# Altium integrated library SAWACO_DEMO_V2.IntLib: 41 symbols
Pins are listed as number, name and electrical type; pins without a type are passive.

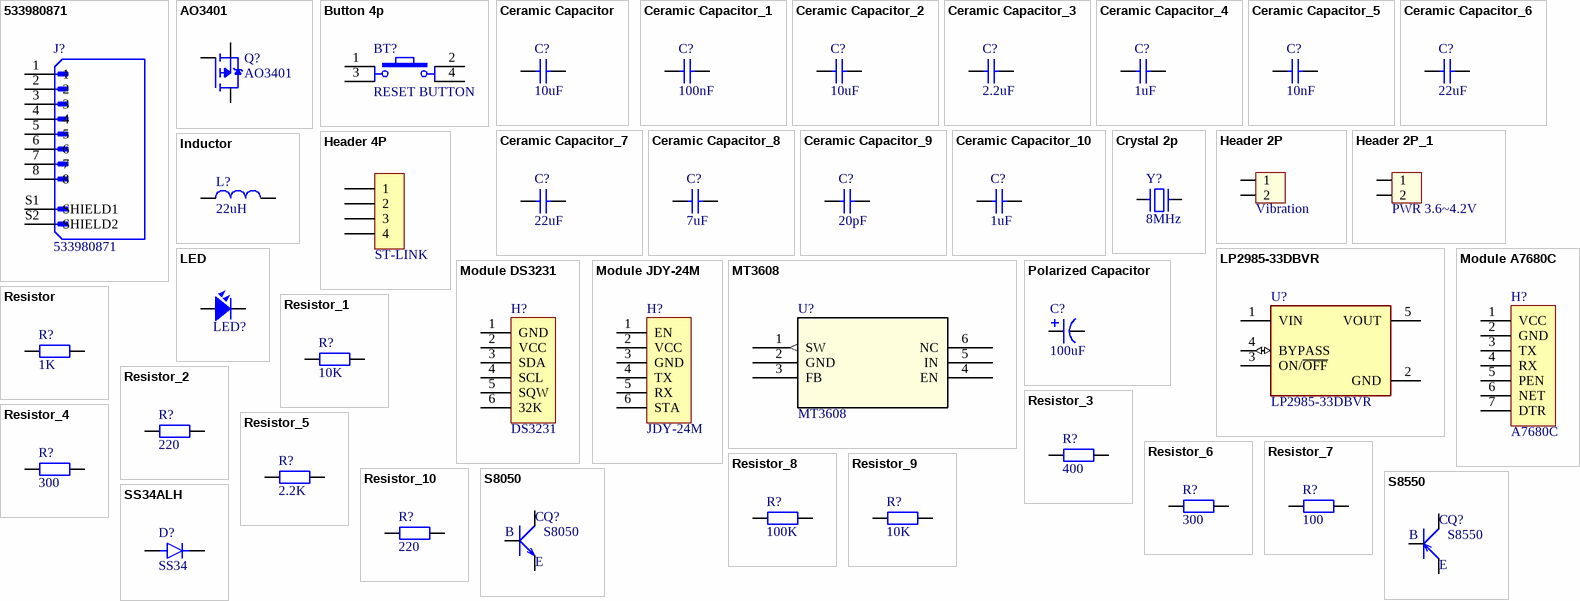
[diagram p0: symbols 533980871 to SS34ALH]

## 533980871
designator J?
MX 1.25mm 8 pin;Conn; Rect; Header; 1.25 mm Pitch; PCB; 8 Cir; Ver; SMT; PicoBlade; LF | Molex Incorporated 53398-0871; Price: None; MP: 533980871; Availability: Unavailable; Value: *; Package: None
footprint MOLEX_533980871
pins: 1, 2, 3, 4, 5, 6, 7, 8, S1 SHIELD1, S2 SHIELD2

## AO3401
designator Q?
Mosfet P-Channel 30 V 4A (Ta) 1.4W (Ta) Surface Mount SOT-23-3; MF: Alpha &; SnapEDA_Link: https://www.snapeda.com/parts/AO3401/Alpha+%2526+Omega+Semiconductor+Inc./view-part/?ref=snap; Package: TO-236-3 Alpha &amp; Omega Semiconductor Inc.; Value: *; MP: AO3401; Check_prices: https://www.snapeda.com/parts/AO3401/Alpha+%2526+Omega+Semiconductor+Inc./view-part/?ref=eda
footprint SOT23
pins: 1 G, 2 S, 3 D

## Button 4p
designator BT?, comment RESET BUTTON
Ten: Nút Nhấn 4 Chân 6.2x6.2x3.1MM SMD; Ma_Hang: MH002424
footprint SMD button 4 pins 6x6 (SW SMD button 4pin, 250 x250 mil)
pins: 1, 2, 3, 4

## Ceramic Capacitor
designator C?, comment 10uF
Chung_Loai: Dán; Don_Vi: Con; So_Chan: 2; Ten_Linh_Kien: Tụ 0805 104-100nF 10% 50V; Ma_Hang: MH004551; Kieu_Chan: *
footprint 0603_Cap (0603 SMD Ceramic Capacitor)
footprint 0805_Cap (0805 SMD Ceramic Capacitor)
footprint 1206_CAP (3216 Tantalum Capacitor)
pins: 1, 2

## Ceramic Capacitor_1
designator C?, comment 100nF
Chung_Loai: Dán; Don_Vi: Con; So_Chan: 2; Ten_Linh_Kien: Tụ 0805 104-100nF 10% 50V; Ma_Hang: MH004551; Kieu_Chan: *
footprint 0603_Cap (0603 SMD Ceramic Capacitor)
footprint 0805_Cap (0805 SMD Ceramic Capacitor)
footprint 1206_CAP (3216 Tantalum Capacitor)
pins: 1, 2

## Ceramic Capacitor_2
designator C?, comment 10uF
Chung_Loai: Dán; Don_Vi: Con; So_Chan: 2; Ten_Linh_Kien: Tụ 0805 104-100nF 10% 50V; Ma_Hang: MH004551; Kieu_Chan: *
footprint 0603_Cap (0603 SMD Ceramic Capacitor)
footprint 0805_Cap (0805 SMD Ceramic Capacitor)
footprint 1206_CAP (3216 Tantalum Capacitor)
pins: 1, 2

## Ceramic Capacitor_3
designator C?, comment 2.2uF
Chung_Loai: Dán; Don_Vi: Con; So_Chan: 2; Ten_Linh_Kien: Tụ 0805 104-100nF 10% 50V; Ma_Hang: MH004551; Kieu_Chan: *
footprint 0603_Cap (0603 SMD Ceramic Capacitor)
footprint 0805_Cap (0805 SMD Ceramic Capacitor)
footprint 1206_CAP (3216 Tantalum Capacitor)
pins: 1, 2

## Ceramic Capacitor_4
designator C?, comment 1uF
Chung_Loai: Dán; Don_Vi: Con; So_Chan: 2; Ten_Linh_Kien: Tụ 0805 104-100nF 10% 50V; Ma_Hang: MH004551; Kieu_Chan: *
footprint 0603_Cap (0603 SMD Ceramic Capacitor)
footprint 0805_Cap (0805 SMD Ceramic Capacitor)
footprint 1206_CAP (3216 Tantalum Capacitor)
pins: 1, 2

## Ceramic Capacitor_5
designator C?, comment 10nF
Chung_Loai: Dán; Don_Vi: Con; So_Chan: 2; Ten_Linh_Kien: Tụ 0805 104-100nF 10% 50V; Ma_Hang: MH004551; Kieu_Chan: *
footprint 0603_Cap (0603 SMD Ceramic Capacitor)
footprint 0805_Cap (0805 SMD Ceramic Capacitor)
footprint 1206_CAP (3216 Tantalum Capacitor)
pins: 1, 2

## Ceramic Capacitor_6
designator C?, comment 22uF
Chung_Loai: Dán; Don_Vi: Con; So_Chan: 2; Ten_Linh_Kien: Tụ 0805 104-100nF 10% 50V; Ma_Hang: MH004551; Kieu_Chan: *
footprint 0603_Cap (0603 SMD Ceramic Capacitor)
footprint 0805_Cap (0805 SMD Ceramic Capacitor)
footprint 1206_CAP (3216 Tantalum Capacitor)
pins: 1, 2

## Ceramic Capacitor_7
designator C?, comment 22uF
Chung_Loai: Dán; Don_Vi: Con; So_Chan: 2; Ten_Linh_Kien: Tụ 0805 104-100nF 10% 50V; Ma_Hang: MH004551; Kieu_Chan: *
footprint 0603_Cap (0603 SMD Ceramic Capacitor)
footprint 0805_Cap (0805 SMD Ceramic Capacitor)
footprint 1206_CAP (3216 Tantalum Capacitor)
pins: 1, 2

## Ceramic Capacitor_8
designator C?, comment 7uF
Chung_Loai: Dán; Don_Vi: Con; So_Chan: 2; Ten_Linh_Kien: Tụ 0805 104-100nF 10% 50V; Ma_Hang: MH004551; Kieu_Chan: *
footprint 0603_Cap (0603 SMD Ceramic Capacitor)
footprint 0805_Cap (0805 SMD Ceramic Capacitor)
footprint 1206_CAP (3216 Tantalum Capacitor)
pins: 1, 2

## Ceramic Capacitor_9
designator C?, comment 20pF
Chung_Loai: Dán; Don_Vi: Con; So_Chan: 2; Ten_Linh_Kien: Tụ 0805 104-100nF 10% 50V; Ma_Hang: MH004551; Kieu_Chan: *
footprint 0603_Cap (0603 SMD Ceramic Capacitor)
footprint 0805_Cap (0805 SMD Ceramic Capacitor)
footprint 1206_CAP (3216 Tantalum Capacitor)
pins: 1, 2

## Ceramic Capacitor_10
designator C?, comment 1uF
Chung_Loai: Dán; Don_Vi: Con; So_Chan: 2; Ten_Linh_Kien: Tụ 0805 104-100nF 10% 50V; Ma_Hang: MH004551; Kieu_Chan: *
footprint 0603_Cap (0603 SMD Ceramic Capacitor)
footprint 0805_Cap (0805 SMD Ceramic Capacitor)
footprint 1206_CAP (3216 Tantalum Capacitor)
pins: 1, 2

## Crystal 2p
designator Y?, comment 8MHz
Crystal For all Crystal 2pin.; Value: 4Mhz
footprint Crystal SMD 2p
pins: 1, 2

## Header 2P
designator H?, comment Vibration
THT; Ten_Linh_Kien: Header 2P XH2.54-2P Đực Cong; Don_Vi: Con; Ma_Hang: MH002852; Chung_Loai: Cắm
footprint XH2.54M-2
footprint CON 2 EDG5.08-2P
footprint JP 1x2
pins: 1, 2

## Header 2P_1
designator H?, comment PWR 3.6~4.2V
THT; Ten_Linh_Kien: Header 2P XH2.54-2P Đực Cong; Don_Vi: Con; Ma_Hang: MH002852; Chung_Loai: Cắm
footprint XH2.54M-2
footprint CON 2 EDG5.08-2P
footprint JP 1x2
footprint KF301-2P
pins: 1, 2

## Header 4P
designator H?, comment ST-LINK
THT; Ten_Linh_Kien: Header 4P XH2.54-4P Đực Cong; Don_Vi: Con; Ma_Hang: MH001310; Chung_Loai: Cắm
footprint XH2.54M-4
footprint CON 4 EDG5.08-4P
footprint JP 1X4
pins: 1, 2, 3, 4

## Inductor
designator L?, comment 22uH
Inductors from EPCOS include SMT Inductors, SMT Power Inductors, Transponder Coils, ISDN Transformers, xDSL Transformers, DC/DC Converters, RF Transformers and SMT Current Sense Transformers.; MP: B82477G4472M000; Price: None; SnapEDA_Link: https://www.snapeda.com/parts/B82477G4472M000/EPCOS/view-part/?ref=snap; Package: NON STANDARD-2 EPCOS; Value: *; Check_prices: https://www.snapeda.com/parts/B82477G4472M000/EPCOS/view-part/?ref=eda; Availability: In Stock; MF: EPCOS; Purchase-URL: https://pricing.snapeda.com/search/part/B82477G4472M000/?ref=eda
footprint 0603_Inductor (SMD)
footprint Inductor 5A (THT)
pins: 1, 2

## LED
designator LED?  (value not drawn)
LED single color 2 leads
footprint 0603_LED (LED single color 2 leads)
footprint 0805_LED
pins: A Anode, C Cathode

## LP2985-33DBVR
designator U?
150-mA, 16-V, low-dropout voltage regulator with enable 5-SOT-23 -40 to 125; Package: None; Value: *; Price: None; MP: LP2985-33DBVR; Availability: Unavailable
footprint SOT95P280X145-5N
pins: 1 VIN, 2 GND (power), 3 ON/~{OFF}, 4 BYPASS (io), 5 VOUT

## Module A7680C
designator H?, comment A7680C
SIM Module A7680C; A7672S 4G
footprint Module A7680C (Footprint for A7680C)
pins: 1 VCC, 2 GND, 3 TX, 4 RX, 5 PEN, 6 NET, 7 DTR

## Module DS3231
designator H?, comment DS3231
Module RTC (Real Time Clock) DS3231 6p
footprint Module DS3231
pins: 1 GND, 2 VCC, 3 SDA, 4 SCL, 5 SQW, 6 32K

## Module JDY-24M
designator H?, comment JDY-24M
Module BLE JDY-24M Bluetooth module 6p
footprint Module JDY-24M
pins: 1 EN, 2 VCC, 3 GND, 4 TX, 5 RX, 6 STA

## MT3608
designator U?
No Description Available; Mfr_Name: Aerosemi; RefDes: RefDes; Type: Type
footprint TSOT23-6SOT23-6_AER
pins: 1 SW (out), 2 GND (power), 3 FB, 4 EN, 5 IN (power), 6 NC

## Polarized Capacitor
designator C?, comment 100uF
Polarized Capacitor
footprint 1206_CAP (3216 Tantalum Capacitor)
footprint 8x12 radial capacitor
pins: 1, 2

## Resistor
designator R?, comment 1K
Chung_Loai: Dán; Don_Vi: Con; So_Chan: 2; Ten_Linh_Kien: Trở 0805 1% 1k; Ma_Hang: MH005468; Kieu_Chan: *
footprint 0805_Res (0805 SMD Resistor)
footprint 0603_Res (0603 SMD Resistor)
pins: 1, 2

## Resistor_1
designator R?, comment 10K
Chung_Loai: Dán; Don_Vi: Con; So_Chan: 2; Ten_Linh_Kien: Trở 0805 1% 1k; Ma_Hang: MH005468; Kieu_Chan: *
footprint 0805_Res (0805 SMD Resistor)
footprint 0603_Res (0603 SMD Resistor)
pins: 1, 2

## Resistor_2
designator R?, comment 220
Chung_Loai: Dán; Don_Vi: Con; So_Chan: 2; Ten_Linh_Kien: Trở 0805 1% 1k; Ma_Hang: MH005468; Kieu_Chan: *
footprint 0805_Res (0805 SMD Resistor)
footprint 0603_Res (0603 SMD Resistor)
pins: 1, 2

## Resistor_3
designator R?, comment 400
Chung_Loai: Dán; Don_Vi: Con; So_Chan: 2; Ten_Linh_Kien: Trở 0805 1% 1k; Ma_Hang: MH005468; Kieu_Chan: *
footprint 0805_Res (0805 SMD Resistor)
footprint 0603_Res (0603 SMD Resistor)
pins: 1, 2

## Resistor_4
designator R?, comment 300
Chung_Loai: Dán; Don_Vi: Con; So_Chan: 2; Ten_Linh_Kien: Trở 0805 1% 1k; Ma_Hang: MH005468; Kieu_Chan: *
footprint 0805_Res (0805 SMD Resistor)
footprint 0603_Res (0603 SMD Resistor)
pins: 1, 2

## Resistor_5
designator R?, comment 2.2K
Chung_Loai: Dán; Don_Vi: Con; So_Chan: 2; Ten_Linh_Kien: Trở 0805 1% 1k; Ma_Hang: MH005468; Kieu_Chan: *
footprint 0805_Res (0805 SMD Resistor)
footprint 0603_Res (0603 SMD Resistor)
pins: 1, 2

## Resistor_6
designator R?, comment 300
Chung_Loai: Dán; Don_Vi: Con; So_Chan: 2; Ten_Linh_Kien: Trở 0805 1% 1k; Ma_Hang: MH005468; Kieu_Chan: *
footprint 0805_Res (0805 SMD Resistor)
footprint 0603_Res (0603 SMD Resistor)
pins: 1, 2

## Resistor_7
designator R?, comment 100
Chung_Loai: Dán; Don_Vi: Con; So_Chan: 2; Ten_Linh_Kien: Trở 0805 1% 1k; Ma_Hang: MH005468; Kieu_Chan: *
footprint 0805_Res (0805 SMD Resistor)
footprint 0603_Res (0603 SMD Resistor)
pins: 1, 2

## Resistor_8
designator R?, comment 100K
Chung_Loai: Dán; Don_Vi: Con; So_Chan: 2; Ten_Linh_Kien: Trở 0805 1% 1k; Ma_Hang: MH005468; Kieu_Chan: *
footprint 0805_Res (0805 SMD Resistor)
footprint 0603_Res (0603 SMD Resistor)
pins: 1, 2

## Resistor_9
designator R?, comment 10K
Chung_Loai: Dán; Don_Vi: Con; So_Chan: 2; Ten_Linh_Kien: Trở 0805 1% 1k; Ma_Hang: MH005468; Kieu_Chan: *
footprint 0805_Res (0805 SMD Resistor)
footprint 0603_Res (0603 SMD Resistor)
pins: 1, 2

## Resistor_10
designator R?, comment 220
Chung_Loai: Dán; Don_Vi: Con; So_Chan: 2; Ten_Linh_Kien: Trở 0805 1% 1k; Ma_Hang: MH005468; Kieu_Chan: *
footprint 0805_Res (0805 SMD Resistor)
footprint 0603_Res (0603 SMD Resistor)
pins: 1, 2

## S8050
designator Q?
Bipolar (BJT) Transistor NPN SOT-23; MF: UMW; Purchase-URL: https://banlinhkien.com/s8050-sot23-trans-npn-0.5a-40v-j3y-10c-p15943539.html; Check_prices: https://banlinhkien.com/s8050-sot23-trans-npn-0.5a-40v-j3y-10c-p15943539.html; Link: https://banlinhkien.com/s8050-sot23-trans-npn-0.5a-40v-j3y-10c-p15943539.html; Price: None; Availability: In Stock; Package: None; MP: S8050; Value: *
footprint SOT23
pins: 1 B, 2 E, 3 C

## S8550
designator Q?
Bipolar (BJT) Transistor PNP SOT-23; MF: UMW; MP: S8050; Purchase-URL: https://banlinhkien.com/s8050-sot23-trans-npn-0.5a-40v-j3y-10c-p15943539.html; Check_prices: https://banlinhkien.com/s8050-sot23-trans-npn-0.5a-40v-j3y-10c-p15943539.html; SnapEDA_Link: https://www.snapeda.com/parts/S8050/Umwelt+Sensor+Teknik/view-part/?ref=snap; Price: None; Availability: In Stock; Package: None; Value: *
footprint SOT-23
pins: 1 B, 2 E, 3 C

## SS34ALH
designator D?, comment SS34
3A, 40V, Schottky Rectifier; MP: SS34ALH; MF: Taiwan Semiconductor; Package: DO-221AC Taiwan Semiconductor; Value: *; SnapEDA_Link: https://www.snapeda.com/parts/SS34ALH/Taiwan+Semiconductor/view-part/?ref=snap; Availability: Not in stock; Price: None; Check_prices: https://www.snapeda.com/parts/SS34ALH/Taiwan+Semiconductor/view-part/?ref=eda
footprint SODFL5226X100N
pins: 1 K, 2 A

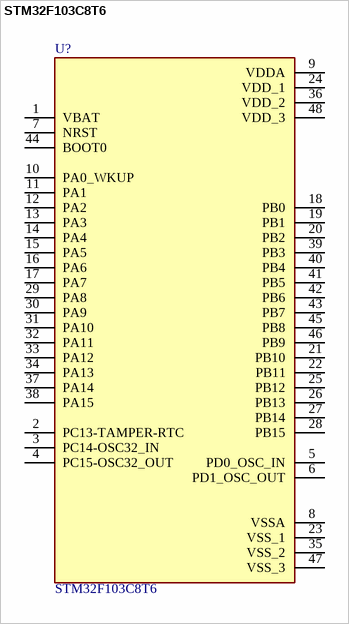
[diagram p1: symbol STM32F103C8T6]

## STM32F103C8T6
designator U?
ARMÂ® CortexÂ®-M3 STM32F1 Microcontroller IC 32-Bit 72MHz 64KB (64K x 8) FLASH 48-LQFP (7x7); MF: STMicroelectronics; Price: None; Availability: In Stock; MP: STM32F103C8T6; Package: LQFP-48 STMicroelectronics; Link: https://icdayroi.com/stm32f103c8t6; Check_prices: https://icdayroi.com/stm32f103c8t6; Value: *; Purchase-URL: https://pricing.snapeda.com/search/part/STM32F103C8T6/?ref=eda
footprint LQFP-48
pins: 1 VBAT, 2 PC13-TAMPER-RTC, 3 PC14-OSC32_IN, 4 PC15-OSC32_OUT, 5 PD0_OSC_IN, 6 PD1_OSC_OUT, 7 NRST, 8 VSSA (power), 9 VDDA (power), 10 PA0_WKUP, 11 PA1, 12 PA2, 13 PA3, 14 PA4, 15 PA5, 16 PA6, 17 PA7, 18 PB0, 19 PB1, 20 PB2, 21 PB10, 22 PB11, 23 VSS_1 (power), 24 VDD_1 (power), 25 PB12, 26 PB13, 27 PB14, 28 PB15, 29 PA8, 30 PA9, 31 PA10, 32 PA11, 33 PA12, 34 PA13, 35 VSS_2 (power), 36 VDD_2 (power), 37 PA14, 38 PA15, 39 PB3, 40 PB4, 41 PB5, 42 PB6, 43 PB7, 44 BOOT0, 45 PB8, 46 PB9, 47 VSS_3 (power), 48 VDD_3 (power)